# EAGLE library part MCV7 (library con-phoenix-381_l)
Mini-Combicon 3.81mm vertikal 7polig (ohne Gegenstecker)
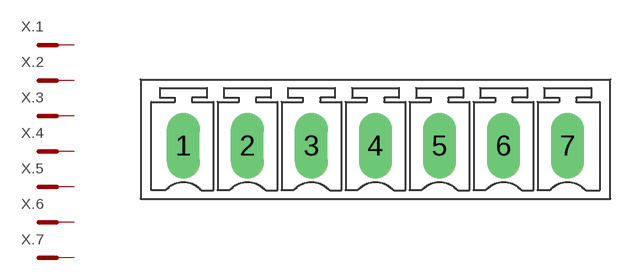
[diagram p1: symbol with the pads of MCV7; footprint MCV7]

Designator prefix X; gates .1=MCST .2=MCST .3=MCST .4=MCST .5=MCST .6=MCST .7=MCST

## MCV7  [MCV7]
1  .1:SK  pas
2  .2:SK  pas
3  .3:SK  pas
4  .4:SK  pas
5  .5:SK  pas
6  .6:SK  pas
7  .7:SK  pas

## Footprint MCV7 (pad centres in mm)
Mini-Combicon 3.81mm vertikal 7-polig (ohne Gegenstecker)
drill 1.3 pad 1.905 long: 1 -11.43,0; 2 -7.62,0; 3 -3.81,0; 4 0,0; 5 3.81,0; 6 7.62,0; 7 11.43,0